# Altium schematic symbol library NL27WZ14DTT1G.SchLib: 1 symbol
Pins are listed as number, name and electrical type; pins without a type are passive.

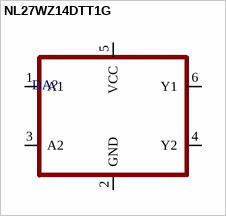
[diagram p0: symbol NL27WZ14DTT1G]

## NL27WZ14DTT1G
designator DA?
pins: 1 A1, 2 GND, 3 A2, 4 Y2, 5 VCC, 6 Y1